# EAGLE library part К176ИЕ12 (library К176)
К176ИЕ12 генератор, счётчик делитель на 32768 и 60 для часов. http://lib.chipdip.ru/031/DOC001031304.pdf pin 12 вход генератора, pin 13 выход генератора, pin 14 выход генератора контрольный 32768гц.
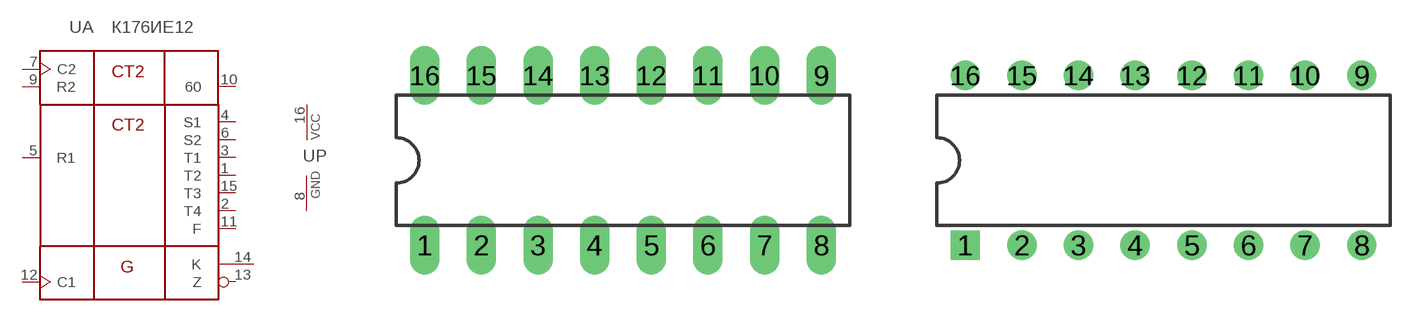
[diagram p0: symbol with the pads of DIL16; footprints DIL16, DIL16B]

Designator prefix -; gates A=К176ИЕ12 P=PWRN

## К176ИЕ12L  [DIL16]
1  A:T2  out
2  A:T4  out
3  A:T1  out
4  A:S1  out
5  A:R1  in
6  A:S2  out
7  A:C2  in
8  P:GND  pwr
9  A:R2  in
10  A:60  out
11  A:F  out
12  A:C1  in
13  A:Z  out
14  A:K
15  A:T3  out
16  P:VCC  pwr

## К176ИЕ12  [DIL16B]
Pads as for DIL16

## Footprint DIL16 (pad centres in mm)
Dual In Line Package
drill 0.813 long: 1 -8.89,-3.81; 2 -6.35,-3.81; 3 -3.81,-3.81; 4 -1.27,-3.81; 5 1.27,-3.81; 6 3.81,-3.81; 7 6.35,-3.81; 8 8.89,-3.81; 9 8.89,3.81; 10 6.35,3.81; 11 3.81,3.81; 12 1.27,3.81; 13 -1.27,3.81; 14 -3.81,3.81; 15 -6.35,3.81; 16 -8.89,3.81

## Footprint DIL16B (pad centres in mm)
Dual In Line Package
drill 0.813 square: 1 -8.89,-3.81
drill 0.813: 2 -6.35,-3.81; 3 -3.81,-3.81; 4 -1.27,-3.81; 5 1.27,-3.81; 6 3.81,-3.81; 7 6.35,-3.81; 8 8.89,-3.81; 9 8.89,3.81; 10 6.35,3.81; 11 3.81,3.81; 12 1.27,3.81; 13 -1.27,3.81; 14 -3.81,3.81; 15 -6.35,3.81; 16 -8.89,3.81